# Altium schematic symbol library NE555P.SchLib: 1 symbol
Pins are listed as number, name and electrical type; pins without a type are passive.

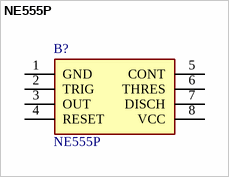
[diagram p0: symbol NE555P]

## NE555P
designator B?
Precision timer,NE555P 0.5MHz DIL8 Texas Instruments NE555P, Precision Timer, 4.5  16 V, 8-Pin PDIP; Geometry.Height: 5.08mm; Mouser Part Number: 595-NE555P; Mouser Price/Stock: https://www.mouser.co.uk/ProductDetail/Texas-Instruments/NE555P?qs=rkhjVJ6%2F3EIf4CWgjIKuKQ%3D%3D; Manufacturer_Name: Texas Instruments; Manufacturer_Part_Number: NE555P; Datasheet Link: http://www.ti.com/lit/ds/symlink/ne555.pdf
footprint DIP794W53P254L959H508Q8N
pins: 1 GND, 2 TRIG, 3 OUT, 4 RESET, 5 CONT, 6 THRES, 7 DISCH, 8 VCC